# EAGLE library part 74XX245 (library everykey)
Octal noninverting bidirectional driver with direction and enable pins
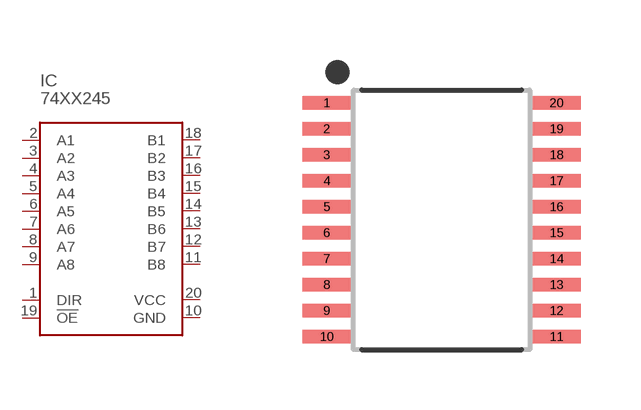
[diagram p82: symbol with the pads of TSSOP20-4.4-0.65; footprint TSSOP20-4.4-0.65]

Designator prefix IC

## 74XX245-TSSOP20-4.4  [TSSOP20-4.4-0.65]
1  DIR  in
2  A1
3  A2
4  A3
5  A4
6  A5
7  A6
8  A7
9  A8
10  GND  pwr
11  B8
12  B7
13  B6
14  B5
15  B4
16  B3
17  B2
18  B1
19  !OE  in
20  VCC  pwr

## Footprint TSSOP20-4.4-0.65 (pad centres in mm)
TSSOP package, 20 pins, 0.65mm pitch, 4.4mm body width
smd 1.2 x 0.33: 1 -2.875,2.925; 2 -2.875,2.275; 3 -2.875,1.625; 4 -2.875,0.975; 5 -2.875,0.325; 6 -2.875,-0.325; 7 -2.875,-0.975; 8 -2.875,-1.625; 9 -2.875,-2.275; 10 -2.875,-2.925; 11 2.875,-2.925; 12 2.875,-2.275; 13 2.875,-1.625; 14 2.875,-0.975; 15 2.875,-0.325; 16 2.875,0.325; 17 2.875,0.975; 18 2.875,1.625; 19 2.875,2.275; 20 2.875,2.925